# EAGLE library part 09PINOS (library Arduino-clone)
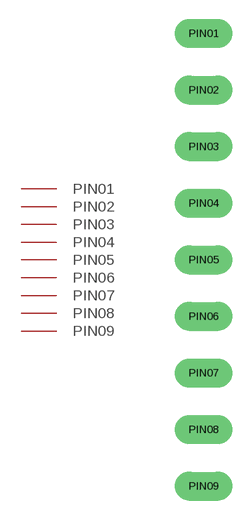
[diagram p3: symbol with the pads of 09PINOS; footprint 09PINOS]

Designator prefix -

## 09PINOS  [09PINOS]
PIN01  PIN01
PIN02  PIN02
PIN03  PIN03
PIN04  PIN04
PIN05  PIN05
PIN06  PIN06
PIN07  PIN07
PIN08  PIN08
PIN09  PIN09

## Footprint 09PINOS (pad centres in mm)
Arduino Pro Mini Clone
drill 0.8 long: PIN01 -6.35,26.67; PIN02 -6.35,24.13; PIN03 -6.35,21.59; PIN04 -6.35,19.05; PIN05 -6.35,16.51; PIN06 -6.35,13.97; PIN07 -6.35,11.43; PIN08 -6.35,8.89; PIN09 -6.35,6.35